# Altium footprint library SOIC-8-W.PcbLib: 1 footprints
Each footprint in its own frame and in the unit in brackets; x right, y up, seen from the top. Pads: shape width x height; smd on the part's side, far side on the other; paste and mask are expansions set on the pad; w line width, h text height; cw(c..) or ccw(c..) is an arc to the next point about the centre after c.
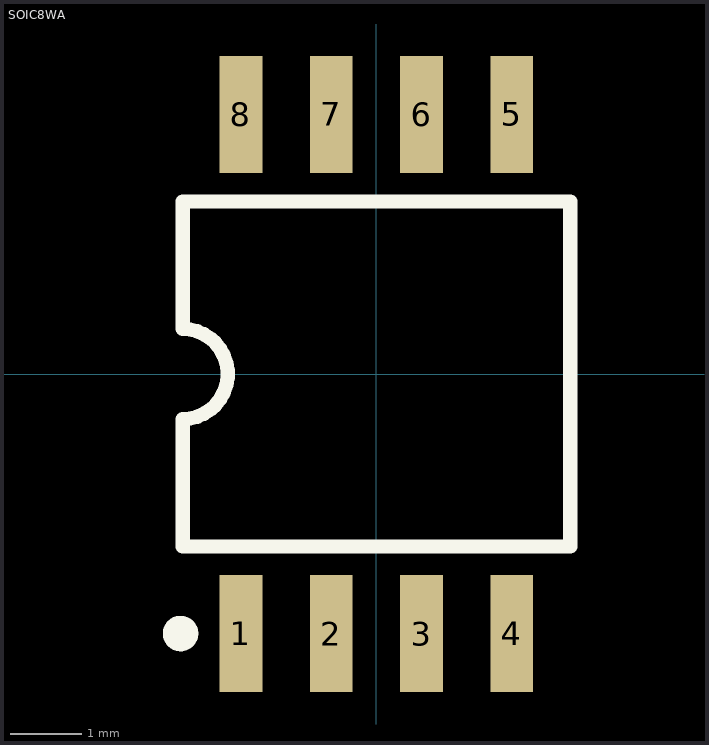
[diagram p0: the footprint, top view; thin cyan lines are the x and y axes]

## SOIC8WA [mm]
pads (8):
  rect 0.6x1.65 smd: 1(-1.905,-3.65) 2(-0.635,-3.65) 3(0.635,-3.65) 4(1.905,-3.65) 5(1.905,3.65) 6(0.635,3.65) 7(-0.635,3.65) 8(-1.905,3.65)
Top Overlay:
  circle w0.25: c-2.755,-3.65 r0.125
  lines w0.2: -2.725,-2.425 2.725,-2.425 2.725,2.425 -2.725,2.425 -2.725,0.635 cw(c-2.725,0) -2.725,-0.635 -2.725,-2.425
3D body: height 1.75, standoff -0.01, extent -2.73,-4.052 2.73,4.05